# Altium schematic symbol library Schlib1.SchLib: 1 symbol
Pins are listed as number, name and electrical type; pins without a type are passive.

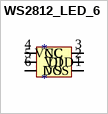
[diagram p0: symbol WS2812_LED_6]

## WS2812_LED_6
designator *
pins: 1 DO, 2 DI, 3 VCC, 4 NC, 5 VDD, 6 VSS